# Altium schematic symbol library myLib.SchLib: 6 symbols
Pins are listed as number, name and electrical type; pins without a type are passive.

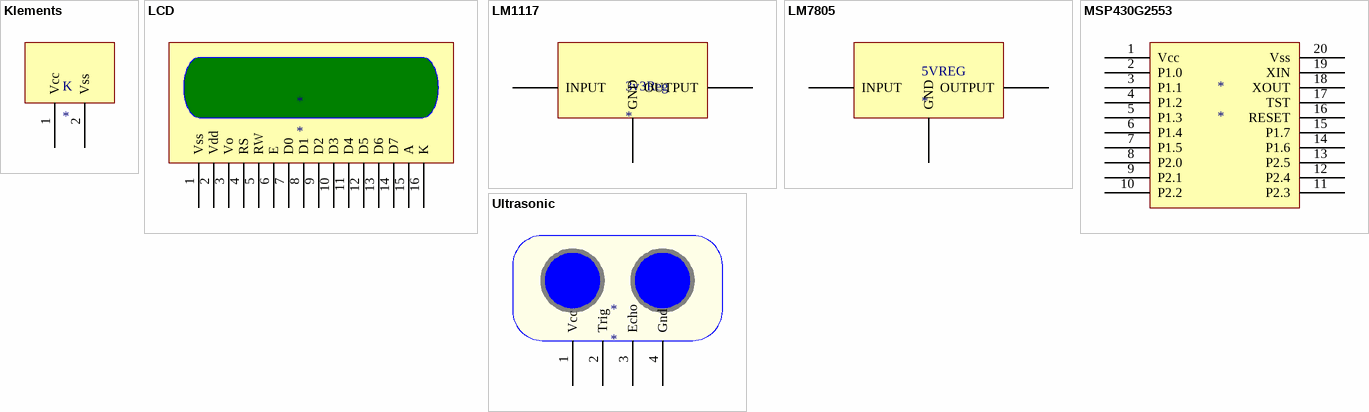
[diagram p0: symbols Klements to Ultrasonic]

## Klements
designator K
footprint Klements
pins: 1 Vcc, 2 Vss

## LCD
designator *
footprint LCD
pins: 1 Vss, 2 Vdd, 3 Vo, 4 RS, 5 RW, 6 E, 7 D0, 8 D1, 9 D2, 10 D3, 11 D4, 12 D5, 13 D6, 14 D7, 15 A, 16 K

## LM1117
designator 3v3Reg
footprint 3v3_Reg_
pins: 0 GND, 1 OUTPUT, 2 INPUT

## LM7805
designator 5VREG
footprint 5V_REG
pins: 0 INPUT, 1 GND, 2 OUTPUT

## MSP430G2553
designator *
footprint MSP430G2553_FP
pins: 1 Vcc, 2 P1.0, 3 P1.1, 4 P1.2, 5 P1.3, 6 P1.4, 7 P1.5, 8 P2.0, 9 P2.1, 10 P2.2, 11 P2.3, 12 P2.4, 13 P2.5, 14 P1.6, 15 P1.7, 16 RESET, 17 TST, 18 XOUT, 19 XIN, 20 Vss

## Ultrasonic
designator *
footprint Ultasonik_FP
pins: 1 Vcc, 2 Trig, 3 Echo, 4 Gnd